# Altium integrated library AST-03032MR-R.IntLib: 1 symbol
Pins are listed as number, name and electrical type; pins without a type are passive.

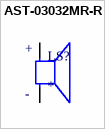
[diagram p0: symbol AST-03032MR-R]

## AST-03032MR-R
designator LS?
SPEAKER .1W 32 OHM 81DBA 1200HZ MYLAR; MF: PUI Audio,; MP: AST-03032MR-R; Value: *; Price: None; Availability: In Stock; SnapEDA_Link: https://www.snapeda.com/parts/AST-03032MR-R/PUI%20Audio,%20Inc./view-part/307318/?ref=snap; Check_prices: https://www.snapeda.com/parts/AST-03032MR-R/PUI%20Audio,%20Inc./view-part/307318/?ref=eda; Purchase-URL: https://pricing.snapeda.com/search/part/AST-03032MR-R/?ref=eda; Package: None
footprint SPKR_AST-03032MR-R
pins: N NEG, P POS
text: +; -